# EAGLE library part MD-40SV (library con-cui)
MINI CIRCULAR CON. - VERTICAL MOUNT Source: http://cui.com/pdffiles/MD-40SV.pdf
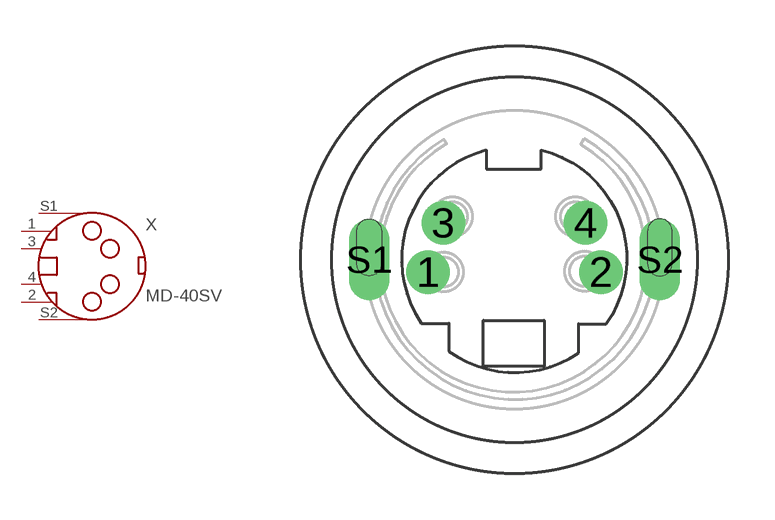
[diagram p0: symbol with the pads of MD-40SV; footprint MD-40SV]

Designator prefix X

## MD-40SV (OC_FARNELL: unknown; OC_NEWARK: unknown)  [MD-40SV]
1  1  pas
2  2  pas
3  3  pas
4  4  pas
S1  S  pas
S2  S  pas

## Footprint MD-40SV (pad centres in mm)
MINI CIRCULAR CON. - VERTICAL MOUNT Source: http://cui.com/pdffiles/MD-40SV.pdf
drill 0.9 pad 1.27 round: 1 -2.8,-0.4; 2 2.8,-0.4; 3 -2.3,1.2; 4 2.3,1.2
drill 0.8 pad 1.27 long: S1 -4.7,0; S2 4.7,0